# EAGLE library part LM1458MX_NOPB (library superior-no-branding)
Dual 36V general-purpose operational amplifier Source: Datasheet <http://www.ti.com/lit/gpn/lm1458>
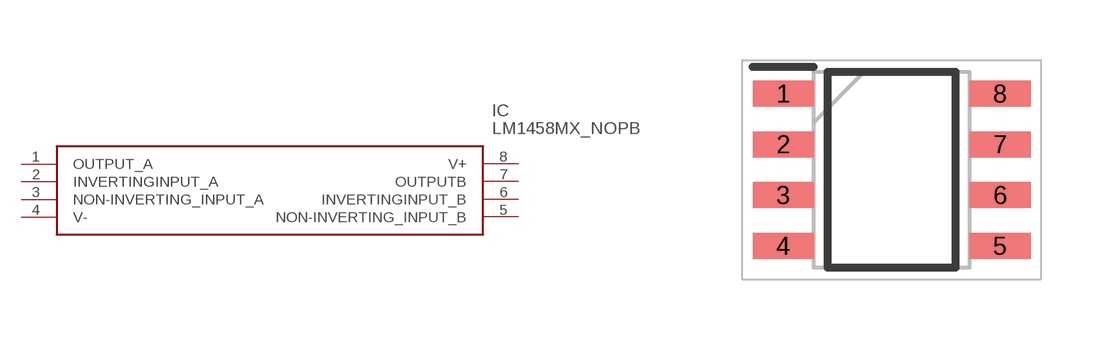
[diagram p0: symbol with the pads of SOIC127P600X175-8N; footprint SOIC127P600X175-8N]

Designator prefix IC

## LM1458MX_NOPB (DESCRIPTION: Dual 36V general-purpose operational amplifier; HEIGHT: 1.75mm; MANUFACTURER_NAME: Texas Instruments; MANUFACTURER_PART_NUMBER: LM1458MX/NOPB; MOUSER_PART_NUMBER: 926-LM1458MX/NOPB; MOUSER_PRICE-STOCK: https://www.mouser.co.uk/ProductDetail/Texas-Instruments/LM1458MX-NOPB?qs=X1J7HmVL2ZEdp3OcgROSyw%3D%3D)  [SOIC127P600X175-8N]
1  OUTPUT_A
2  INVERTINGINPUT_A
3  NON-INVERTING_INPUT_A
4  V-
5  NON-INVERTING_INPUT_B
6  INVERTINGINPUT_B
7  OUTPUTB
8  V+

## Footprint SOIC127P600X175-8N (pad centres in mm)
D
smd 1.528 x 0.65: 1 -2.711,1.905; 2 -2.711,0.635; 3 -2.711,-0.635; 4 -2.711,-1.905; 5 2.711,-1.905; 6 2.711,-0.635; 7 2.711,0.635; 8 2.711,1.905